# Altium footprint library RPR-359F.PcbLib: 1 footprints
Each footprint in its own frame and in the unit in brackets; x right, y up, seen from the top. Pads: shape width x height; smd on the part's side, far side on the other; paste and mask are expansions set on the pad; w line width, h text height; cw(c..) or ccw(c..) is an arc to the next point about the centre after c.
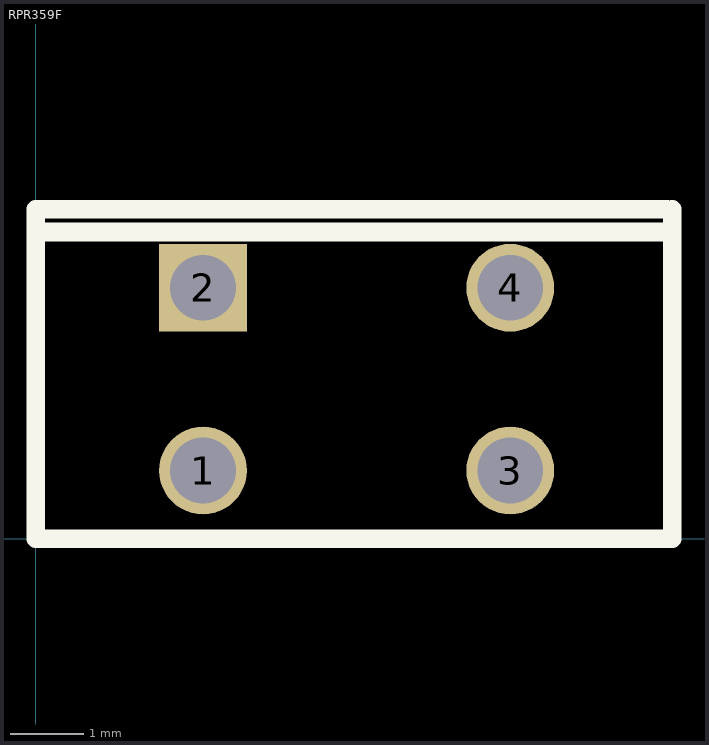
[diagram p0: the footprint, top view; thin cyan lines are the x and y axes]

## RPR359F [mm]
pads (4):
  round 1.2 hole 0.9: 1(2.286,0.929) 3(6.486,0.929) 4(6.486,3.429)
  rect 1.2x1.2 hole 0.9: 2(2.286,3.429)
Top Overlay:
  lines w0.254: 0,4.191 8.7,4.191 ; 8.628,4.5 0,4.5 0,0 8.7,0 8.7,4.5